# EAGLE library part 6A8 (library radiotubes)
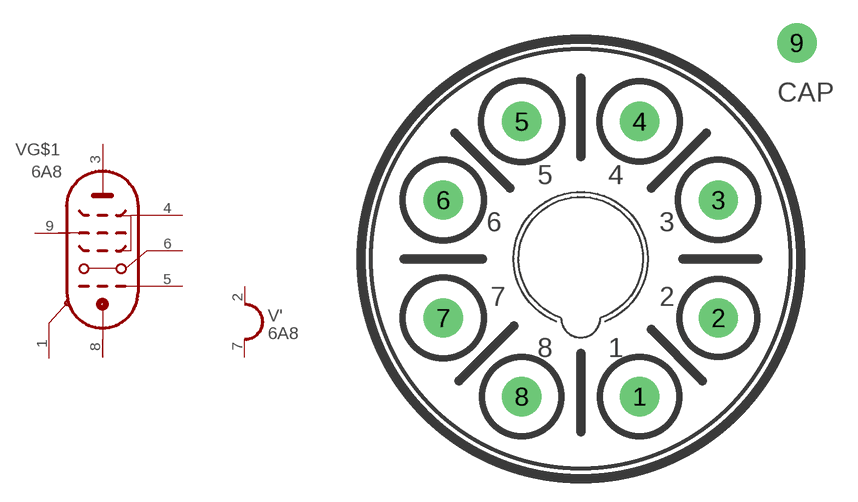
[diagram p94: symbol with the pads of OCTAL-C; footprint OCTAL-C]

Designator prefix V; gates M=SH-GND '=HEATER_1 G$1=PGC

## 6A8  [OCTAL-C]
1  M:S  pas
2  ':H1  pas
3  G$1:A  pas
4  G$1:SG  pas
5  G$1:G1  pas
6  G$1:AO  pas
7  ':H2  pas
8  G$1:K  pas
9  G$1:G-IN  pas

## Footprint OCTAL-C (pad centres in mm)
drill 1.27 pad 2.54: 1 3.81,-8.89; 2 8.89,-3.81; 3 8.89,3.81; 4 3.81,8.89; 5 -3.81,8.89; 6 -8.89,3.81; 7 -8.89,-3.81; 8 -3.81,-8.89; 9 13.97,13.97